# Altium footprint library 野火_EBF6ULL F1 核心板_PCB封装_AD格式.PcbLib: 17 footprints (part 1 of 2)
Each footprint in its own frame and in the unit in brackets; x right, y up, seen from the top. Pads: shape width x height; smd on the part's side, far side on the other; paste and mask are expansions set on the pad; w line width, h text height; cw(c..) or ccw(c..) is an arc to the next point about the centre after c.
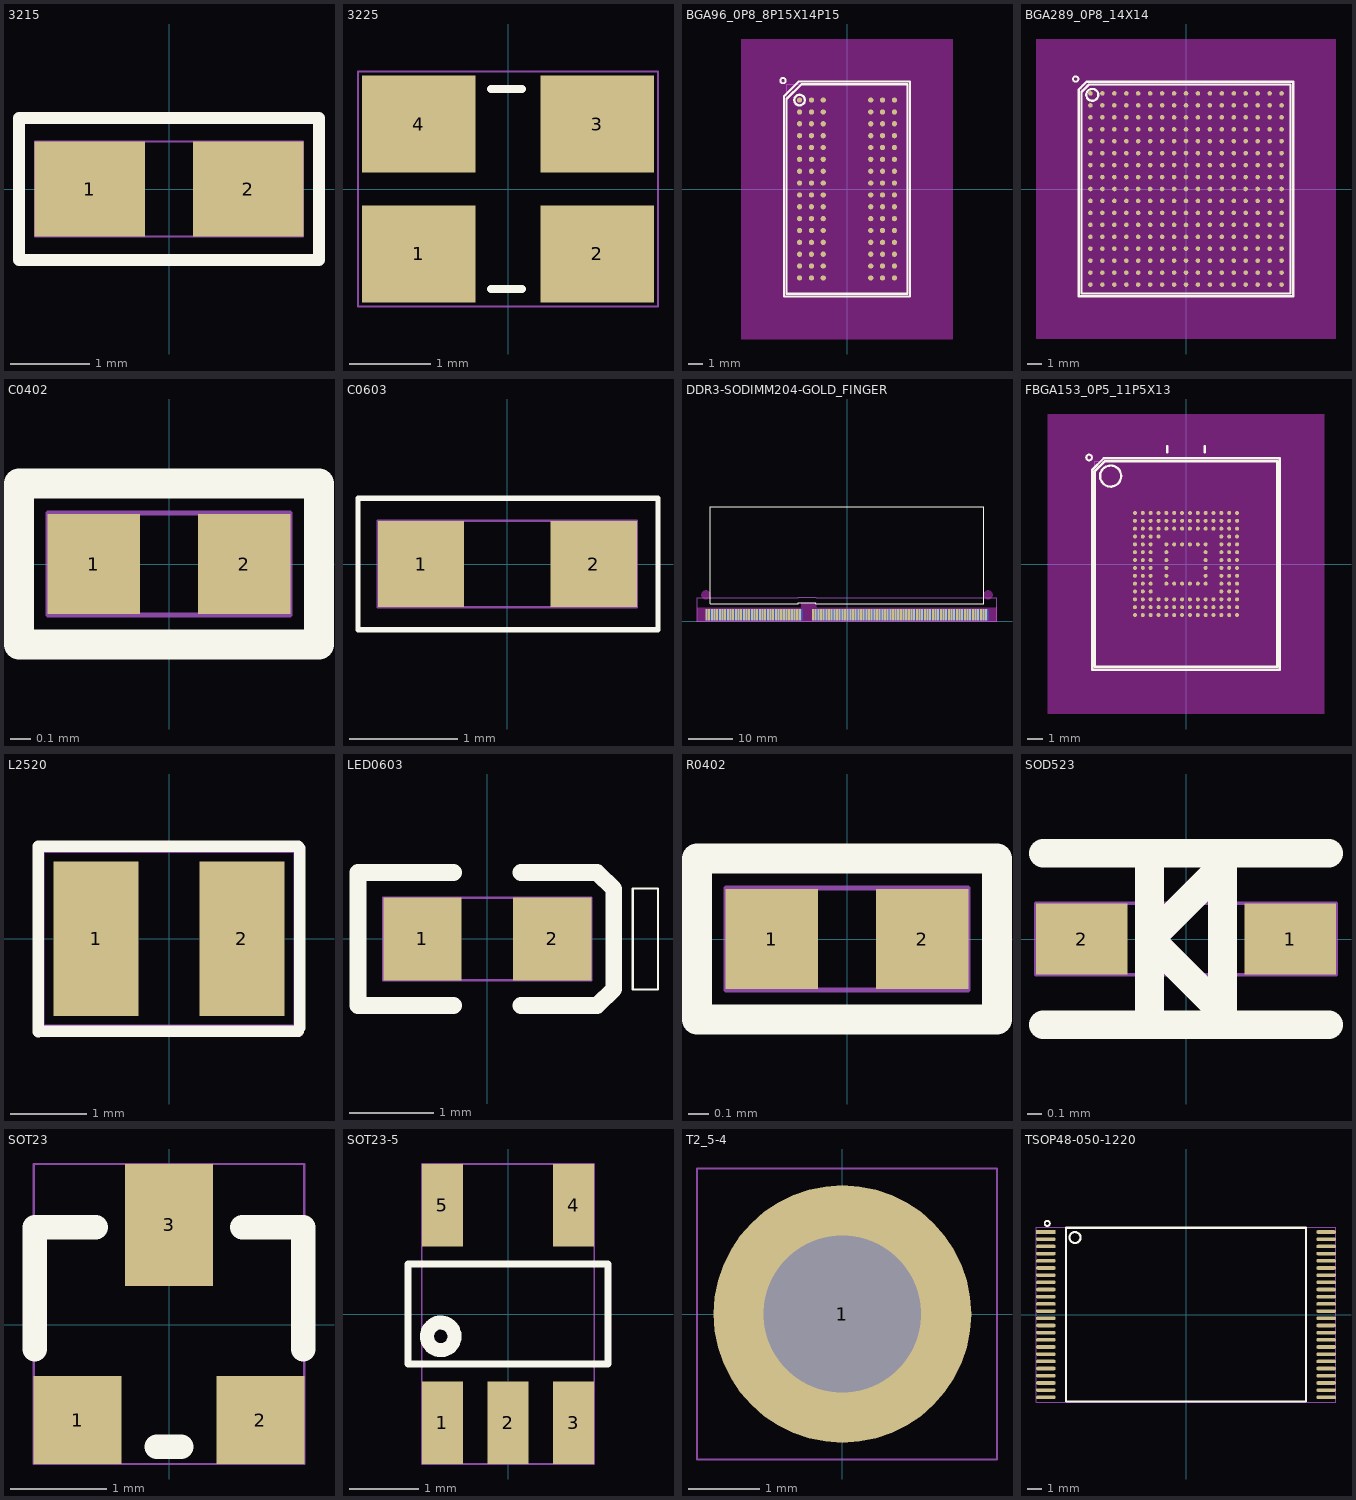
[diagram p0: the footprints below, top view; thin cyan lines are the x and y axes]

## 3215 [mil]
pads (2):
  rect 55.1x47.2 smd mask+2: 1(-39.4,0) 2(39.4,0)
Top Overlay:
  lines w5.9: -74.8,-35.4 74.8,-35.4 74.8,35.4 -74.8,35.4 -74.8,-35.4
Top Assembly:
  text "Y2" at 38.93,25 h50
Mechanical 16:
  lines w1: -66.9,-23.6 -66.9,23.6 66.9,23.6 66.9,-23.6 -66.9,-23.6

## 3225 [mil]
pads (4):
  rect 55.1x47.2 smd mask+2: 1(-43.3,-31.5) 2(43.3,-31.5) 3(43.3,31.5) 4(-43.3,31.5)
Top Overlay:
  lines w3.9: -8.3,-48.5 6.7,-48.5 ; -8.3,48.5 6.7,48.5
Top Assembly:
  text "Y1" at 28.21,25 h50
Mechanical 16:
  lines w1: -72.8,-57.1 72.8,-57.1 72.8,57.1 -72.8,57.1 -72.8,-57.1

## BGA96_0P8_8P15X14P15 [mil]
height 47
pads (96):
  round 14 smd mask+2: A1(-125.98,236.22) A2(-94.49,236.22) A3(-62.99,236.22) A7(62.99,236.22) A8(94.49,236.22) A9(125.98,236.22) B1(-125.98,204.72) B2(-94.49,204.72) B3(-62.99,204.72) B7(62.99,204.72) B8(94.49,204.72) B9(125.98,204.72) C1(-125.98,173.23) C2(-94.49,173.23) C3(-62.99,173.23) C7(62.99,173.23) C8(94.49,173.23) C9(125.98,173.23) D1(-125.98,141.73) D2(-94.49,141.73) D3(-62.99,141.73) D7(62.99,141.73) D8(94.49,141.73) D9(125.98,141.73) E1(-125.98,110.24) E2(-94.49,110.24) E3(-62.99,110.24) E7(62.99,110.24) E8(94.49,110.24) E9(125.98,110.24) F1(-125.98,78.74) F2(-94.49,78.74) F3(-62.99,78.74) F7(62.99,78.74) F8(94.49,78.74) F9(125.98,78.74) G1(-125.98,47.24) G2(-94.49,47.24) G3(-62.99,47.24) G7(62.99,47.24) G8(94.49,47.24) G9(125.98,47.24) H1(-125.98,15.75) H2(-94.49,15.75) H3(-62.99,15.75) H7(62.99,15.75) H8(94.49,15.75) H9(125.98,15.75) J1(-125.98,-15.75) J2(-94.49,-15.75) J3(-62.99,-15.75) J7(62.99,-15.75) J8(94.49,-15.75) J9(125.98,-15.75) K1(-125.98,-47.24) K2(-94.49,-47.24) K3(-62.99,-47.24) K7(62.99,-47.24) K8(94.49,-47.24) K9(125.98,-47.24) L1(-125.98,-78.74) L2(-94.49,-78.74) L3(-62.99,-78.74) L7(62.99,-78.74) L8(94.49,-78.74) L9(125.98,-78.74) M1(-125.98,-110.24) M2(-94.49,-110.24) M3(-62.99,-110.24) M7(62.99,-110.24) M8(94.49,-110.24) M9(125.98,-110.24) N1(-125.98,-141.73) N2(-94.49,-141.73) N3(-62.99,-141.73) N7(62.99,-141.73) N8(94.49,-141.73) N9(125.98,-141.73) P1(-125.98,-173.23) P2(-94.49,-173.23) P3(-62.99,-173.23) P7(62.99,-173.23) P8(94.49,-173.23) P9(125.98,-173.23) R1(-125.98,-204.72) R2(-94.49,-204.72) R3(-62.99,-204.72) R7(62.99,-204.72) R8(94.49,-204.72) R9(125.98,-204.72) T1(-125.98,-236.22) T2(-94.49,-236.22) T3(-62.99,-236.22) T7(62.99,-236.22) T8(94.49,-236.22) T9(125.98,-236.22)
Top Layer keep-out:
  region: -280.43,-398.54 280.43,-398.54 280.43,398.54 -280.43,398.54
Top Overlay:
  circle w5: c-170,287.92 r7.1
  circle w6: c-125.98,236.22 r14.08
  lines w6: -167.43,-285.55 -167.43,246.18 -128.07,285.54 167.43,285.54 167.43,-285.54 -167.43,-285.54 ; -160.43,-278.54 160.43,-278.54 160.43,278.54 -121.06,278.54 -160.43,239.17 -160.43,-278.54
Top Assembly:
  text "U3" at 40.23,25 h50
Mechanical 16:
  lines w1: -160.43,-278.54 160.43,-278.54 160.43,278.54 -160.43,278.54 -160.43,-278.54

## BGA289_0P8_14X14 [mil]
height 53
pads (289):
  round 12 smd mask+2: A1(-252,252) A2(-220.5,252) A3(-189,252) A4(-157.5,252) A5(-126,252) A6(-94.5,252) A7(-63,252) A8(-31.5,252) A9(0,252) A10(31.5,252) A11(63,252) A12(94.5,252) A13(126,252) A14(157.5,252) A15(189,252) A16(220.5,252) A17(252,252) B1(-252,220.5) B2(-220.5,220.5) B3(-189,220.5) B4(-157.5,220.5) B5(-126,220.5) B6(-94.5,220.5) B7(-63,220.5) B8(-31.5,220.5) B9(0,220.5) B10(31.5,220.5) B11(63,220.5) B12(94.5,220.5) B13(126,220.5) B14(157.5,220.5) B15(189,220.5) B16(220.5,220.5) B17(252,220.5) C1(-252,189) C2(-220.5,189) C3(-189,189) C4(-157.5,189) C5(-126,189) C6(-94.5,189) C7(-63,189) C8(-31.5,189) C9(0,189) C10(31.5,189) C11(63,189) C12(94.5,189) C13(126,189) C14(157.5,189) C15(189,189) C16(220.5,189) C17(252,189) D1(-252,157.5) D2(-220.5,157.5) D3(-189,157.5) D4(-157.5,157.5) D5(-126,157.5) D6(-94.5,157.5) D7(-63,157.5) D8(-31.5,157.5) D9(0,157.5) D10(31.5,157.5) D11(63,157.5) D12(94.5,157.5) D13(126,157.5) D14(157.5,157.5) D15(189,157.5) D16(220.5,157.5) D17(252,157.5) E1(-252,126) E2(-220.5,126) E3(-189,126) E4(-157.5,126) E5(-126,126) E6(-94.5,126) E7(-63,126) E8(-31.5,126) E9(0,126) E10(31.5,126) E11(63,126) E12(94.5,126) E13(126,126) E14(157.5,126) E15(189,126) E16(220.5,126) E17(252,126) F1(-252,94.5) F2(-220.5,94.5) F3(-189,94.5) F4(-157.5,94.5) F5(-126,94.5) F6(-94.5,94.5) F7(-63,94.5) F8(-31.5,94.5) F9(0,94.5) F10(31.5,94.5) F11(63,94.5) F12(94.5,94.5) F13(126,94.5) F14(157.5,94.5) F15(189,94.5) F16(220.5,94.5) F17(252,94.5) G1(-252,63) G2(-220.5,63) G3(-189,63) G4(-157.5,63) G5(-126,63) G6(-94.5,63) G7(-63,63) G8(-31.5,63) G9(0,63) G10(31.5,63) G11(63,63) G12(94.5,63) G13(126,63) G14(157.5,63) G15(189,63) G16(220.5,63) G17(252,63) H1(-252,31.5) H2(-220.5,31.5) H3(-189,31.5) H4(-157.5,31.5) H5(-126,31.5) H6(-94.5,31.5) H7(-63,31.5) H8(-31.5,31.5) H9(0,31.5) H10(31.5,31.5) H11(63,31.5) H12(94.5,31.5) H13(126,31.5) H14(157.5,31.5) H15(189,31.5) H16(220.5,31.5) H17(252,31.5) J1(-252,0) J2(-220.5,0) J3(-189,0) J4(-157.5,0) J5(-126,0) J6(-94.5,0) J7(-63,0) J8(-31.5,0) J9(0,0) J10(31.5,0) J11(63,0) J12(94.5,0) J13(126,0) J14(157.5,0) J15(189,0) J16(220.5,0) J17(252,0) K1(-252,-31.5) K2(-220.5,-31.5) K3(-189,-31.5) K4(-157.5,-31.5) K5(-126,-31.5) K6(-94.5,-31.5) K7(-63,-31.5) K8(-31.5,-31.5) K9(0,-31.5) K10(31.5,-31.5) K11(63,-31.5) K12(94.5,-31.5) K13(126,-31.5) K14(157.5,-31.5) K15(189,-31.5) K16(220.5,-31.5) K17(252,-31.5) L1(-252,-63) L2(-220.5,-63) L3(-189,-63) L4(-157.5,-63) L5(-126,-63) L6(-94.5,-63) L7(-63,-63) L8(-31.5,-63) L9(0,-63) L10(31.5,-63) L11(63,-63) L12(94.5,-63) L13(126,-63) L14(157.5,-63) L15(189,-63) L16(220.5,-63) L17(252,-63) M1(-252,-94.5) M2(-220.5,-94.5) M3(-189,-94.5) M4(-157.5,-94.5) M5(-126,-94.5) M6(-94.5,-94.5) M7(-63,-94.5) M8(-31.5,-94.5) M9(0,-94.5) M10(31.5,-94.5) M11(63,-94.5) M12(94.5,-94.5) M13(126,-94.5) M14(157.5,-94.5) M15(189,-94.5) M16(220.5,-94.5) M17(252,-94.5) N1(-252,-126) N2(-220.5,-126) N3(-189,-126) N4(-157.5,-126) N5(-126,-126) N6(-94.5,-126) N7(-63,-126) N8(-31.5,-126) N9(0,-126) N10(31.5,-126) N11(63,-126) N12(94.5,-126) N13(126,-126) N14(157.5,-126) N15(189,-126) N16(220.5,-126) N17(252,-126) P1(-252,-157.5) P2(-220.5,-157.5) P3(-189,-157.5) P4(-157.5,-157.5) P5(-126,-157.5) P6(-94.5,-157.5) P7(-63,-157.5) P8(-31.5,-157.5) P9(0,-157.5) P10(31.5,-157.5) P11(63,-157.5) P12(94.5,-157.5) P13(126,-157.5) P14(157.5,-157.5) P15(189,-157.5) P16(220.5,-157.5) P17(252,-157.5) R1(-252,-189) R2(-220.5,-189) R3(-189,-189) R4(-157.5,-189) R5(-126,-189) R6(-94.5,-189) R7(-63,-189) R8(-31.5,-189) R9(0,-189) R10(31.5,-189) R11(63,-189) R12(94.5,-189) R13(126,-189) R14(157.5,-189) R15(189,-189) R16(220.5,-189) R17(252,-189) T1(-252,-220.5) T2(-220.5,-220.5) T3(-189,-220.5) T4(-157.5,-220.5) T5(-126,-220.5) T6(-94.5,-220.5) T7(-63,-220.5) T8(-31.5,-220.5) T9(0,-220.5) T10(31.5,-220.5) T11(63,-220.5) T12(94.5,-220.5) T13(126,-220.5) T14(157.5,-220.5) T15(189,-220.5) T16(220.5,-220.5) T17(252,-220.5) U1(-252,-252) U2(-220.5,-252) U3(-189,-252) U4(-157.5,-252) U5(-126,-252) U6(-94.5,-252) U7(-63,-252) U8(-31.5,-252) U9(0,-252) U10(31.5,-252) U11(63,-252) U12(94.5,-252) U13(126,-252) U14(157.5,-252) U15(189,-252) U16(220.5,-252) U17(252,-252)
Top Layer keep-out:
  region: -395.6,-395.6 395.6,-395.6 395.6,395.6 -395.6,395.6
Top Overlay:
  circle w5: c-291,289.92 r7.1
  circle w6: c-247.09,248.26 r15.69
  lines w6: -282.6,-282.6 -282.6,262.6 -262.6,282.6 282.6,282.6 282.6,-282.6 -282.6,-282.6 ; -275.6,-275.6 -275.6,255.6 -255.6,275.6 275.6,275.6 275.6,-275.6 -275.6,-275.6
Top Assembly:
  text "U2" at -40.23,-25 h50
Mechanical 16:
  lines w1: -275.6,-275.6 275.6,-275.6 275.6,275.6 -275.6,275.6 -275.6,-275.6

## C0402 [mil]
pads (2):
  rect 18.1x19.7 smd mask+1.95: 1(-14.8,0) 2(14.8,0)
Top Overlay:
  lines w5.9: -29.5,-15.8 -29.5,15.8 29.5,15.8 29.5,-15.8 -29.5,-15.8
Top Assembly:
  text "C99" at 62.61,25 h50
Mechanical 16:
  lines w1: -23.8,-10 23.8,-10 23.8,10 -23.8,10 -23.8,-10

## C0603 [mil]
pads (2):
  rect 31.5x31.5 smd mask+1.95: 1(-31.5,0) 2(31.5,0)
Top Overlay:
  lines w2: -54.5,-24 -54.5,24 55,24 55,-24 -54.5,-24
Top Assembly:
  text "C9" at -40.35,-25 h50
Mechanical 16:
  lines w1: -47.2,-15.8 47.2,-15.8 47.2,15.8 -47.2,15.8 -47.2,-15.8

## DDR3-SODIMM204-GOLD_FINGER [mil]
pads (204):
  rect 18x100 smd mask+2: 1(-1246.06,60) 3(-1222.44,60) 5(-1198.82,60) 7(-1175.2,60) 9(-1151.57,60) 11(-1127.95,60) 13(-1104.33,60) 15(-1080.71,60) 17(-1057.09,60) 19(-1033.46,60) 21(-1009.84,60) 23(-986.22,60) 25(-962.6,60) 27(-938.98,60) 29(-915.35,60) 31(-891.73,60) 33(-868.11,60) 35(-844.49,60) 37(-820.87,60) 39(-797.24,60) 41(-773.62,60) 43(-750,60) 45(-726.38,60) 47(-702.76,60) 49(-679.13,60) 51(-655.51,60) 53(-631.89,60) 55(-608.27,60) 57(-584.65,60) 59(-561.02,60) 61(-537.4,60) 63(-513.78,60) 65(-490.16,60) 67(-466.54,60) 69(-442.91,60) 71(-419.29,60) 73(-301.18,60) 75(-277.56,60) 77(-253.94,60) 79(-230.31,60) 81(-206.69,60) 83(-183.07,60) 85(-159.45,60) 87(-135.83,60) 89(-112.2,60) 91(-88.58,60) 93(-64.96,60) 95(-41.34,60) 97(-17.72,60) 99(5.91,60) 101(29.53,60) 103(53.15,60) 105(76.77,60) 107(100.39,60) 109(124.02,60) 111(147.64,60) 113(171.26,60) 115(194.88,60) 117(218.5,60) 119(242.13,60) 121(265.75,60) 123(289.37,60) 125(312.99,60) 127(336.61,60) 129(360.24,60) 131(383.86,60) 133(407.48,60) 135(431.1,60) 137(454.72,60) 139(478.35,60) 141(501.97,60) 143(525.59,60) 145(549.21,60) 147(572.83,60) 149(596.46,60) 151(620.08,60) 153(643.7,60) 155(667.32,60) 157(690.94,60) 159(714.57,60) 161(738.19,60) 163(761.81,60) 165(785.43,60) 167(809.06,60) 169(832.68,60) 171(856.3,60) 173(879.92,60) 175(903.54,60) 177(927.17,60) 179(950.79,60) 181(974.41,60) 183(998.03,60) 185(1021.65,60) 187(1045.28,60) 189(1068.9,60) 191(1092.52,60) 193(1116.14,60) 195(1139.76,60) 197(1163.39,60) 199(1187.01,60) 201(1210.63,60) 203(1234.25,60)
  rect 18x100 smd far side mask+2: 2(-1234.25,60) 4(-1210.63,60) 6(-1187.01,60) 8(-1163.39,60) 10(-1139.76,60) 12(-1116.14,60) 14(-1092.52,60) 16(-1068.9,60) 18(-1045.28,60) 20(-1021.65,60) 22(-998.03,60) 24(-974.41,60) 26(-950.79,60) 28(-927.17,60) 30(-903.54,60) 32(-879.92,60) 34(-856.3,60) 36(-832.68,60) 38(-809.06,60) 40(-785.43,60) 42(-761.81,60) 44(-738.19,60) 46(-714.57,60) 48(-690.94,60) 50(-667.32,60) 52(-643.7,60) 54(-620.08,60) 56(-596.46,60) 58(-572.83,60) 60(-549.21,60) 62(-525.59,60) 64(-501.97,60) 66(-478.35,60) 68(-454.72,60) 70(-431.1,60) 72(-407.48,60) 74(-289.37,60) 76(-265.75,60) 78(-242.13,60) 80(-218.5,60) 82(-194.88,60) 84(-171.26,60) 86(-147.64,60) 88(-124.02,60) 90(-100.39,60) 92(-76.77,60) 94(-53.15,60) 96(-29.53,60) 98(-5.91,60) 100(17.72,60) 102(41.34,60) 104(64.96,60) 106(88.58,60) 108(112.2,60) 110(135.83,60) 112(159.45,60) 114(183.07,60) 116(206.69,60) 118(230.31,60) 120(253.94,60) 122(277.56,60) 124(301.18,60) 126(324.8,60) 128(348.43,60) 130(372.05,60) 132(395.67,60) 134(419.29,60) 136(442.91,60) 138(466.54,60) 140(490.16,60) 142(513.78,60) 144(537.4,60) 146(561.02,60) 148(584.65,60) 150(608.27,60) 152(631.89,60) 154(655.51,60) 156(679.13,60) 158(702.76,60) 160(726.38,60) 162(750,60) 164(773.62,60) 166(797.24,60) 168(820.87,60) 170(844.49,60) 172(868.11,60) 174(891.73,60) 176(915.35,60) 178(938.98,60) 180(962.6,60) 182(986.22,60) 184(1009.84,60) 186(1033.46,60) 188(1057.09,60) 190(1080.71,60) 192(1104.33,60) 194(1127.95,60) 196(1151.57,60) 198(1175.2,60) 200(1198.82,60) 202(1222.44,60) 204(1246.06,60)
Top Layer keep-out:
  region: 1291.34,236.22 1291.34,240.1 1289.83,247.7 1286.86,254.87 1282.55,261.32 1277.07,266.8 1270.62,271.11 1263.45,274.08 1255.85,275.59 1251.97,275.59 1248.09,275.59 1240.48,274.08 1233.32,271.11 1226.87,266.8 1221.39,261.32 1217.08,254.87 1214.11,247.7 1212.6,240.1 1212.6,236.22 1212.6,232.34 1214.11,224.74 1217.08,217.57 1221.39,211.12 1226.87,205.64 1233.32,201.33 1240.48,198.36 1248.09,196.85 1251.97,196.85 1255.85,196.85 1263.45,198.36 1270.62,201.33 1277.07,205.64 1282.55,211.12 1286.86,217.57 1289.83,224.74 1291.34,232.34
  region: -1212.6,236.22 -1212.6,240.1 -1214.11,247.7 -1217.08,254.87 -1221.39,261.32 -1226.87,266.8 -1233.32,271.11 -1240.49,274.08 -1248.09,275.59 -1251.97,275.59 -1255.85,275.59 -1263.45,274.08 -1270.62,271.11 -1277.06,266.8 -1282.55,261.32 -1286.86,254.87 -1289.82,247.7 -1291.34,240.1 -1291.34,236.22 -1291.34,232.34 -1289.82,224.74 -1286.86,217.57 -1282.55,211.12 -1277.06,205.64 -1270.62,201.33 -1263.45,198.36 -1255.85,196.85 -1251.97,196.85 -1248.09,196.85 -1240.49,198.36 -1233.32,201.33 -1226.87,205.64 -1221.39,211.12 -1217.08,217.57 -1214.11,224.74 -1212.6,232.34
  region: -1330.71,120 -403.92,120 -403.92,166 -274.92,166 -274.92,120 1330.71,120 1330.71,0 -1330.71,0
Top Overlay:
  lines w5.91: -1212.6,157.48 -1212.6,1019.69 1212.6,1019.69 1212.6,157.48 -275.59,157.48 -275.59,165.35 -433.07,165.35 -433.07,157.48 -1212.6,157.48
Top Solder:
  lines w1: -1330.71,0 -1330.71,112 1330.71,112 1330.71,0 -1330.71,0
Bottom Solder:
  lines w1: -1330.71,0 -1330.71,112 1330.71,112 1330.71,0 -1330.71,0
Top Assembly:
  text "J1" at -24.29,-25 h50
Mechanical 16:
  lines w1: -1330.71,0 -1330.71,212 ; -1330.71,0 1330.71,0 ; -1330.71,0 -1330.71,212 ; -1330.71,0 1330.71,0 ; -1330.71,212 -433.92,212 ; -1330.71,212 -433.92,212 ; -433.92,212 -433.92,216 ; -433.92,212 -433.92,216 ; -433.92,216 -274.92,216 ; -433.92,216 -274.92,216 ; -274.92,212 -274.92,216 ; -274.92,212 1330.71,212 ; -274.92,212 -274.92,216 ; -274.92,212 1330.71,212 ; 1330.71,0 1330.71,212 ; 1330.71,0 1330.71,212

## FBGA153_0P5_11P5X13 [mil]
height 47
pads (153):
  round 10 smd mask+1: A1(-127.95,127.95) A2(-108.27,127.95) A3(-88.58,127.95) A4(-68.9,127.95) A5(-49.21,127.95) A6(-29.53,127.95) A7(-9.84,127.95) A8(9.84,127.95) A9(29.53,127.95) A10(49.21,127.95) A11(68.9,127.95) A12(88.58,127.95) A13(108.27,127.95) A14(127.95,127.95) B1(-127.95,108.27) B2(-108.27,108.27) B3(-88.58,108.27) B4(-68.9,108.27) B5(-49.21,108.27) B6(-29.53,108.27) B7(-9.84,108.27) B8(9.84,108.27) B9(29.53,108.27) B10(49.21,108.27) B11(68.9,108.27) B12(88.58,108.27) B13(108.27,108.27) B14(127.95,108.27) C1(-127.95,88.58) C2(-108.27,88.58) C3(-88.58,88.58) C4(-68.9,88.58) C5(-49.21,88.58) C6(-29.53,88.58) C7(-9.84,88.58) C8(9.84,88.58) C9(29.53,88.58) C10(49.21,88.58) C11(68.9,88.58) C12(88.58,88.58) C13(108.27,88.58) C14(127.95,88.58) D1(-127.95,68.9) D2(-108.27,68.9) D3(-88.58,68.9) D4(-68.9,68.9) D12(88.58,68.9) D13(108.27,68.9) D14(127.95,68.9) E1(-127.95,49.21) E2(-108.27,49.21) E3(-88.58,49.21) E5(-49.21,49.21) E6(-29.53,49.21) E7(-9.84,49.21) E8(9.84,49.21) E9(29.53,49.21) E10(49.21,49.21) E12(88.58,49.21) E13(108.27,49.21) E14(127.95,49.21) F1(-127.95,29.53) F2(-108.27,29.53) F3(-88.58,29.53) F5(-49.21,29.53) F10(49.21,29.53) F12(88.58,29.53) F13(108.27,29.53) F14(127.95,29.53) G1(-127.95,9.84) G2(-108.27,9.84) G3(-88.58,9.84) G5(-49.21,9.84) G10(49.21,9.84) G12(88.58,9.84) G13(108.27,9.84) G14(127.95,9.84) H1(-127.95,-9.84) H2(-108.27,-9.84) H3(-88.58,-9.84) H5(-49.21,-9.84) H10(49.21,-9.84) H12(88.58,-9.84) H13(108.27,-9.84) H14(127.95,-9.84) J1(-127.95,-29.53) J2(-108.27,-29.53) J3(-88.58,-29.53) J5(-49.21,-29.53) J10(49.21,-29.53) J12(88.58,-29.53) J13(108.27,-29.53) J14(127.95,-29.53) K1(-127.95,-49.21) K2(-108.27,-49.21) K3(-88.58,-49.21) K5(-49.21,-49.21) K6(-29.53,-49.21) K7(-9.84,-49.21) K8(9.84,-49.21) K9(29.53,-49.21) K10(49.21,-49.21) K12(88.58,-49.21) K13(108.27,-49.21) K14(127.95,-49.21) L1(-127.95,-68.9) L2(-108.27,-68.9) L3(-88.58,-68.9) L12(88.58,-68.9) L13(108.27,-68.9) L14(127.95,-68.9) M1(-127.95,-88.58) M2(-108.27,-88.58) M3(-88.58,-88.58) M4(-68.9,-88.58) M5(-49.21,-88.58) M6(-29.53,-88.58) M7(-9.84,-88.58) M8(9.84,-88.58) M9(29.53,-88.58) M10(49.21,-88.58) M11(68.9,-88.58) M12(88.58,-88.58) M13(108.27,-88.58) M14(127.95,-88.58) N1(-127.95,-108.27) N2(-108.27,-108.27) N3(-88.58,-108.27) N4(-68.9,-108.27) N5(-49.21,-108.27) N6(-29.53,-108.27) N7(-9.84,-108.27) N8(9.84,-108.27) N9(29.53,-108.27) N10(49.21,-108.27) N11(68.9,-108.27) N12(88.58,-108.27) N13(108.27,-108.27) N14(127.95,-108.27) P1(-127.95,-127.95) P2(-108.27,-127.95) P3(-88.58,-127.95) P4(-68.9,-127.95) P5(-49.21,-127.95) P6(-29.53,-127.95) P7(-9.84,-127.95) P8(9.84,-127.95) P9(29.53,-127.95) P10(49.21,-127.95) P11(68.9,-127.95) P12(88.58,-127.95) P13(108.27,-127.95) P14(127.95,-127.95)
Top Layer keep-out:
  region: -346.46,-375.98 -346.46,375.98 346.46,375.98 346.46,-375.98
Top Overlay:
  circle w5: c-243,266.92 r7.1
  circle w6: c-188.98,220.47 r26.41
  lines w6: -47.24,279.53 -47.24,295.28 ; 47.24,279.53 47.24,295.28 ; -235.35,-264.87 -235.35,235.77 -206.24,264.87 235.35,264.87 235.35,-264.87 -235.35,-264.87 ; -228.35,-257.87 -228.35,232.87 -203.35,257.87 228.35,257.87 228.35,-257.87 -228.35,-257.87
Bottom Overlay:
  lines w6: -47.24,279.53 -47.24,295.28 ; 47.24,279.53 47.24,295.28
Top Assembly:
  text "U4" at -41.42,-25 h50
Mechanical 16:
  lines w1: -228.35,-257.87 228.35,-257.87 228.35,257.87 -228.35,257.87 -228.35,-257.87

## L2520 [mil]
height 47
pads (2):
  rect 44x80 smd mask+2: 1(-37.75,0) 2(37.75,0)
Top Overlay:
  lines w6: -67.68,47.92 67.09,47.92 ; -67.67,-48.15 -67.67,48.03 ; -65.71,-47.92 67.09,-47.92 ; 67.67,-46.06 67.67,46.97
Top Assembly:
  text "L2" at 33.69,25 h50
Mechanical 16:
  lines w1: -65,-45 -65,45 65,45 65,-45 -65,-45

## LED0603 [mil]
pads (2):
  rect 36.6x38.6 smd mask+1.95: 1(-30.31,0) 2(30.32,0)
Top Overlay:
  lines w1: 67.91,-23.62 67.91,23.62 79.73,23.62 79.73,-23.62 67.91,-23.62
  lines w7.87: -15.75,-31.1 -60.43,-31.1 -60.43,31.1 -15.75,31.1 ; 15.75,-31.1 51.18,-31.1 59.06,-23.5 59.06,23.5 51.18,31.1 15.75,31.1
Top Assembly:
  text "D8" at -38.93,-25 h50
Mechanical 16:
  lines w1: -48.62,-19.29 48.62,-19.29 48.62,19.29 -48.62,19.29 -48.62,-19.29

## R0402 [mil]
pads (2):
  rect 18.1x19.7 smd mask+1.95: 1(-14.8,0) 2(14.8,0)
Top Overlay:
  lines w5.9: -29.5,-15.8 -29.5,15.8 29.5,15.8 29.5,-15.8 -29.5,-15.8
Top Assembly:
  text "R9" at 37.73,25 h50
Mechanical 16:
  lines w1: -23.8,-10 23.8,-10 23.8,10 -23.8,10 -23.8,-10

## SOD523 [mm]
pads (2):
  rect 0.64x0.5 smd mask+0.05: 1(0.73,0) 2(-0.73,0)
Top Overlay:
  lines w0.2: -1,-0.6 1,-0.6 ; -1,0.6 1,0.6
  lines w0.203: -0.254,-0.508 -0.254,0.508 ; -0.254,0 0.254,-0.508 0.254,0.508 -0.254,0
Top Assembly:
  text "D5" at 0.989,0.635 h1.27
Mechanical 16:
  lines w0.025: -1.05,-0.25 1.05,-0.25 1.05,0.25 -1.05,0.25 -1.05,-0.25

## SOT23 [mil]
pads (3):
  rect 36x36 smd mask+1.95: 1(-37.5,-39) 2(37.5,-39)
  rect 36x50 smd mask+1.95: 3(0,41)
Top Overlay:
  lines w10: -55,-10 -55,40 -30,40 ; -5,-50 5,-50 ; 30,40 55,40 55,-10
Top Assembly:
  text "U8" at -40.23,-25 h50
Mechanical 16:
  lines w1: -55.5,-57 55.5,-57 55.5,66 -55.5,66 -55.5,-57

## SOT23-5 [mil]
pads (5):
  rect 23.6x47.2 smd mask+2: 1(-37.4,-62.01) 2(0,-62.01) 3(37.4,-62.01) 4(37.4,62.01) 5(-37.4,62.01)
Top Overlay:
  circle w8: c-38.4,-12.79 r7.87
  lines w4: -57.09,-28.54 -57.09,18.7 -57.09,28.54 57.09,28.54 57.09,18.7 57.09,-28.54 -57.09,-28.54
Top Assembly:
  text "U9" at -39.04,-25 h50
Mechanical 16:
  lines w1: -49.21,-85.63 49.21,-85.63 49.21,85.63 -49.21,85.63 -49.21,-85.63

## T2_5-4 [mil]
pads (1):
  round 141.73 hole 86.61 mask+1.97: 1(0,0)
Top Assembly:
  text "H2" at 40.23,25 h50
Mechanical 16:
  lines w1: -80,-80 -80,80 85,80 85,-80 -80,-80

## TSOP48-050-1220 [mil]
pads (48):
  rect 54x10 smd mask+2: 1(-383.9,226.4)
  oval 54x10 smd mask+2: 2(-383.9,206.7) 3(-383.9,187) 4(-383.9,167.3) 5(-383.9,147.6) 6(-383.9,128) 7(-383.9,108.3) 8(-383.9,88.6) 9(-383.9,68.9) 10(-383.9,49.2) 11(-383.9,29.5) 12(-383.9,9.8) 13(-383.9,-9.8) 14(-383.9,-29.5) 15(-383.9,-49.2) 16(-383.9,-68.9) 17(-383.9,-88.6) 18(-383.9,-108.3) 19(-383.9,-128) 20(-383.9,-147.6) 21(-383.9,-167.3) 22(-383.9,-187) 23(-383.9,-206.7) 24(-383.9,-226.4) 25(383.9,-226.4) 26(383.9,-206.7) 27(383.9,-187) 28(383.9,-167.3) 29(383.9,-147.6) 30(383.9,-128) 31(383.9,-108.3) 32(383.9,-88.6) 33(383.9,-68.9) 34(383.9,-49.2) 35(383.9,-29.5) 36(383.9,-9.8) 37(383.9,9.8) 38(383.9,29.5) 39(383.9,49.2) 40(383.9,68.9) 41(383.9,88.6) 42(383.9,108.3) 43(383.9,128) 44(383.9,147.6) 45(383.9,167.3) 46(383.9,187) 47(383.9,206.7) 48(383.9,226.4)
Top Overlay:
  circle w6: c-303.86,211.38 r14.96
  circle w5: c-380,250 r7.1
  lines w6: -328.5,-238.2 328.7,-238.2 328.7,238.2 -328.5,238.2 -328.5,-238.2
Top Assembly:
  text "U5" at -40.23,-25 h50
Mechanical 16:
  lines w1: -410,-240 -410,240 410,240 410,-240 -410,-240